# Altium footprint library 2821.PcbLib: 2 footprints
Each footprint in its own frame and in the unit in brackets; x right, y up, seen from the top. Pads: shape width x height; smd on the part's side, far side on the other; paste and mask are expansions set on the pad; w line width, h text height; cw(c..) or ccw(c..) is an arc to the next point about the centre after c.
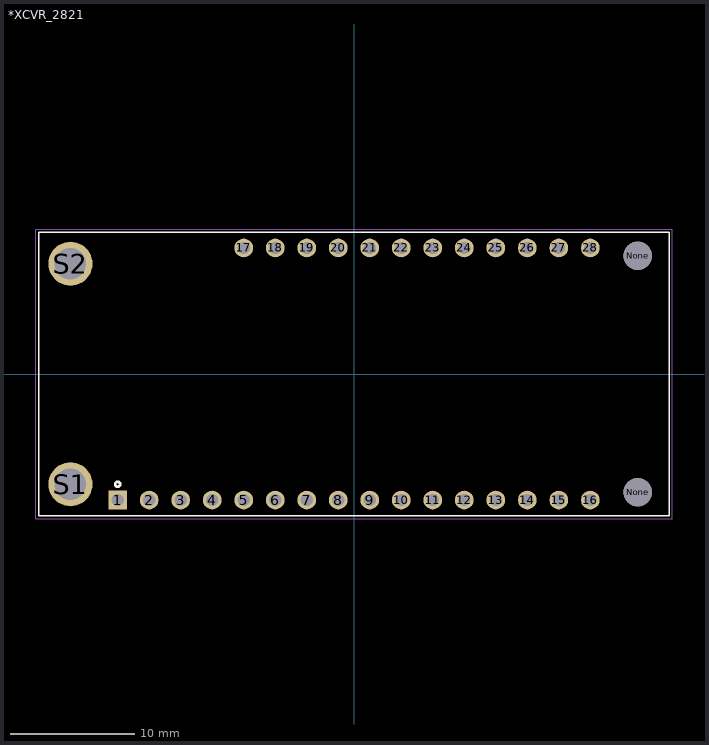
[diagram p0: the footprints below, top view; thin cyan lines are the x and y axes]

## *XCVR_2821 [mm]
pads (32):
  rect 1.508x1.508 hole 1: 1(-19.05,-10.16)
  round 1.508 hole 1: 2(-16.51,-10.16) 3(-13.97,-10.16) 4(-11.43,-10.16) 5(-8.89,-10.16) 6(-6.35,-10.16) 7(-3.81,-10.16) 8(-1.27,-10.16) 9(1.27,-10.16) 10(3.81,-10.16) 11(6.35,-10.16) 12(8.89,-10.16) 13(11.43,-10.16) 14(13.97,-10.16) 15(16.51,-10.16) 16(19.05,-10.16) 17(-8.89,10.16) 18(-6.35,10.16) 19(-3.81,10.16) 20(-1.27,10.16) 21(1.27,10.16) 22(3.81,10.16) 23(6.35,10.16) 24(8.89,10.16) 25(11.43,10.16) 26(13.97,10.16) 27(16.51,10.16) 28(19.05,10.16)
  round 2.286 hole 2.286 unplated: None(22.86,-9.525) None(22.86,9.525)
  round 3.556 hole 2.54: S1(-22.86,-8.89) S2(-22.86,8.89)
Top Overlay:
  circle w0.203: c-19.05,-8.89 r0.2
  lines w0.127: -25.4,-11.43 -25.4,11.43 25.4,11.43 25.4,-11.43 -25.4,-11.43
Mechanical 16:
  lines w0.05: -25.65,-11.68 -25.65,11.68 25.65,11.68 25.65,-11.68 -25.65,-11.68

## PCBComponent_1 [mil]